# Altium footprint library Buzzsaw Footprint Lib.PcbLib: 24 footprints (part 1 of 2)
Each footprint in its own frame and in the unit in brackets; x right, y up, seen from the top. Pads: shape width x height; smd on the part's side, far side on the other; paste and mask are expansions set on the pad; w line width, h text height; cw(c..) or ccw(c..) is an arc to the next point about the centre after c.
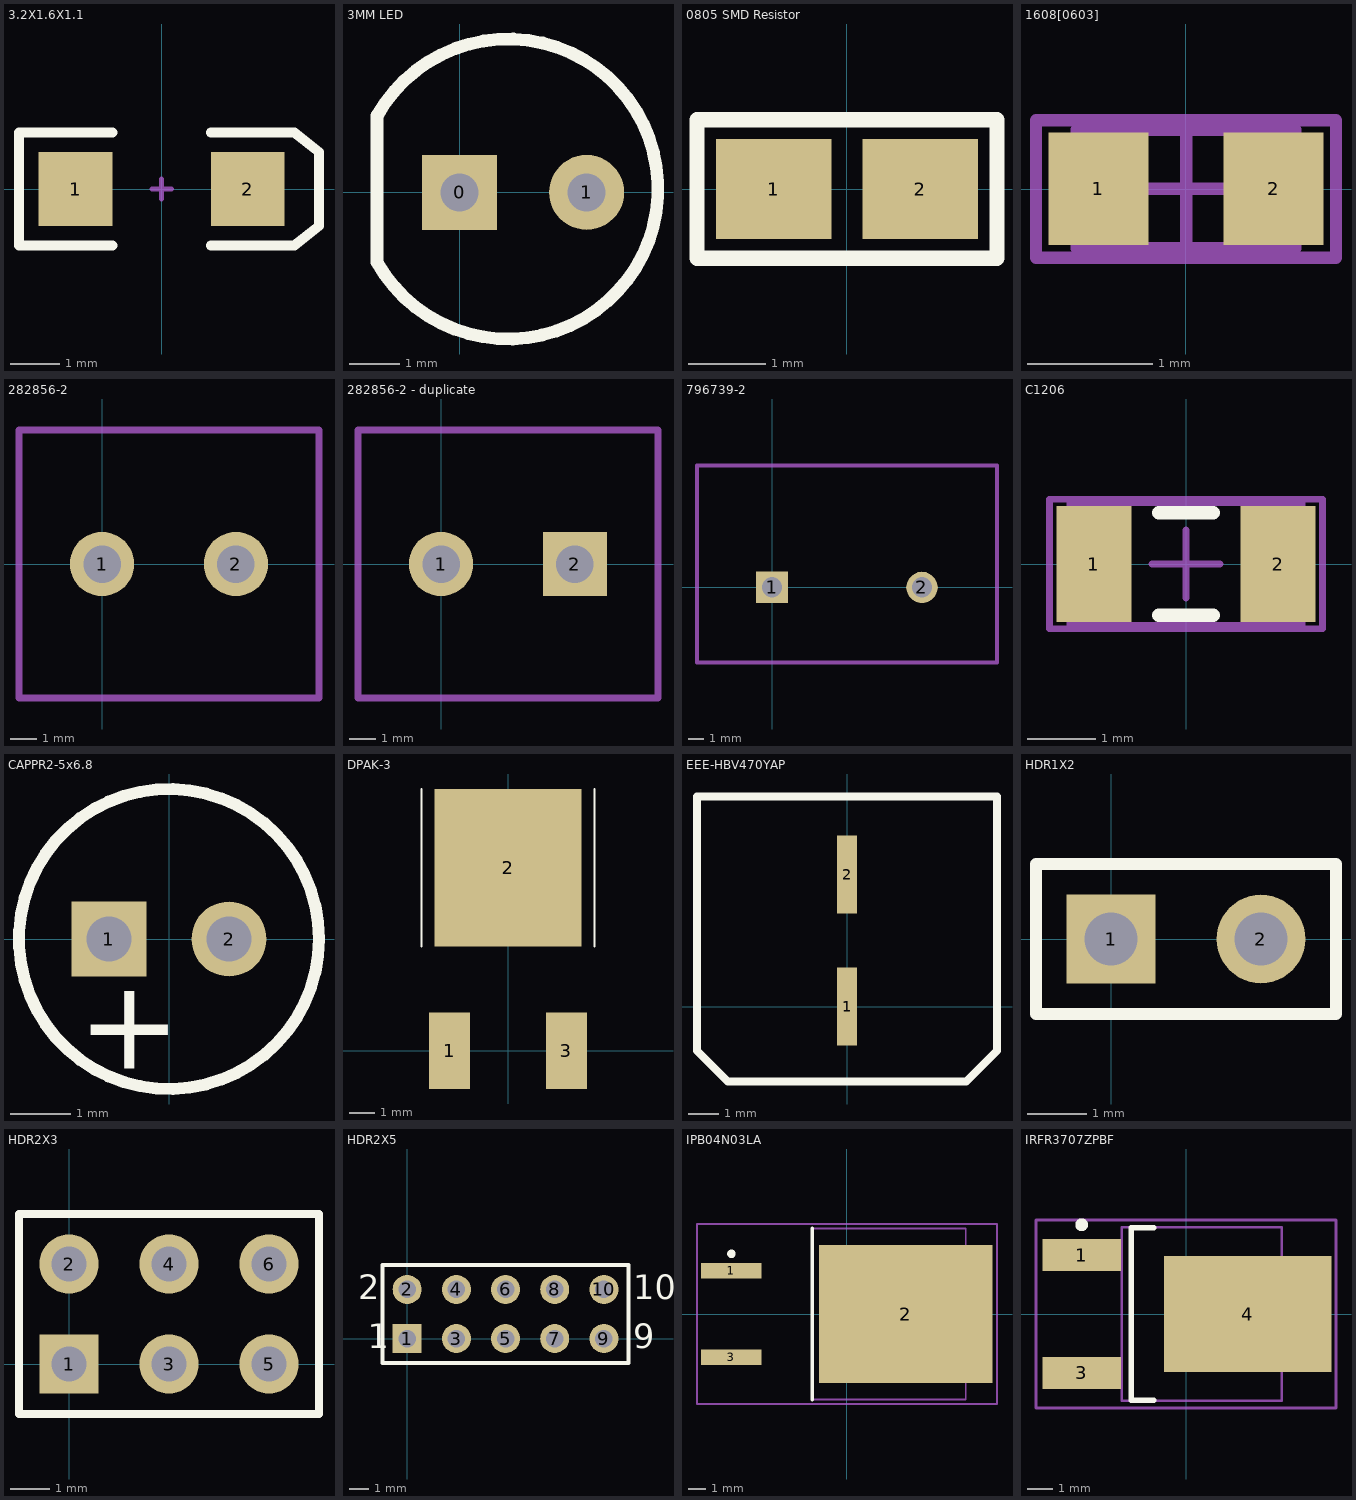
[diagram p0: the footprints below, top view; thin cyan lines are the x and y axes]

## 3.2X1.6X1.1 [mm] "SMT LED; 2 Flat Leads"
height 1.2
pads (2):
  rect 1.5x1.5 smd: 1(-1.75,0) 2(1.75,0)
Top Overlay:
  lines w0.2: -1,-1.15 -2.9,-1.15 -2.9,1.15 -1,1.15 ; 1,-1.15 2.7,-1.15 3.2,-0.75 3.2,0.75 2.7,1.15 1,1.15
Mechanical 1:
  lines w0.1: -0.2,0 0.2,0 ; 0,-0.2 0,0.2

## 3MM LED [mm]
pads (2):
  rect 1.5x1.5 hole 0.762: 0(0,0)
  round 1.5 hole 0.762: 1(2.54,0)
Top Overlay:
  lines w0.254: -1.651,1.537 -1.651,-1.397 ccw(c0.967,0.068) -1.645,1.543

## 0805 SMD Resistor [mm]
height 1
pads (2):
  rect 1.5x1.3 smd: 1(-0.95,0) 2(0.95,0)
Top Overlay:
  lines w0.2: -1.95,-0.9 1.95,-0.9 1.95,0.9 -1.95,0.9 -1.95,0 -1.95,-0.9

## 1608[0603] [mm] "Chip Capacitor, Body 1.6x0.8mm, IPC High Density"
height 1.3
pads (2):
  rect 0.8x0.9 smd: 1(-0.7,0) 2(0.7,0)
Mechanical 13:
  lines w0.1: -0.875,-0.475 0.875,-0.475 0.875,0.475 -0.875,0.475 -0.875,-0.475
Mechanical 15:
  lines w0.1: -0.475,0 0.475,0 ; 0,-0.475 0,0.475 ; -1.2,-0.55 1.2,-0.55 1.2,0.55 -1.2,0.55 -1.2,-0.55
3D body: height 1.3, standoff 0, extent -0.875,-0.475 0.875,0.475

## 282856-2 [mm] "Screw Terminal  two pole"
height 19
pads (2):
  round 2.4 hole 1.4: 1(0,0) 2(5,0)
Mechanical 13:
  lines w0.254: -3.1,-5 -3.1,5 8.1,5 8.1,-5 -3.1,-5

## 282856-2 - duplicate [mm] "Screw Terminal  two pole"
height 19
pads (2):
  round 2.4 hole 1.4: 1(0,0)
  rect 2.4x2.4 hole 1.4: 2(5,0)
Mechanical 13:
  lines w0.254: -3.1,-5 8.1,-5 8.1,5 -3.1,5 -3.1,-5

## 796739-2 [mm] "796739-2 30Amp Screw Terminal block"
pads (2):
  rect 2x2 hole 1.3: 1(0,0)
  round 2 hole 1.3: 2(9.52,0)
Mechanical 1:
  lines w0.254: -4.76,-4.76 -4.76,7.74 14.28,7.74 14.28,-4.76 -4.76,-4.76

## C1206 [mm] "Chip Capacitor, Body 3.2x1.6mm, IPC High Density"
height 1.3
pads (2):
  rect 1.1x1.7 smd: 1(-1.35,0) 2(1.35,0)
Top Overlay:
  lines w0.2: -0.4,-0.75 0.4,-0.75 ; -0.4,0.75 0.4,0.75
Mechanical 13:
  lines w0.1: -1.7,-0.9 1.7,-0.9 1.7,0.9 -1.7,0.9 -1.7,-0.9
Mechanical 15:
  lines w0.1: -0.5,0 0.5,0 ; 0,-0.5 0,0.5 ; -2,-0.95 2,-0.95 2,0.95 -2,0.95 -2,-0.95
3D body: height 1.3, standoff 0, extent -1.7,-0.9 1.7,0.9

## CAPPR2-5x6.8 [mm] "Capacitor, Electrolytic, Radial; Body 5 x 6.8 mm (Dia.xH typ); Pin Spacing 2 mm (typ)"
height 7.8
pads (2):
  rect 1.25x1.25 hole 0.75: 1(-1,0)
  round 1.25 hole 0.75: 2(1,0)
Top Overlay:
  circle w0.2: c0,0 r2.5
  text "+" at -1.524,-2.159 h1.5

## DPAK-3 [mm] "Case 369C-01 for MC78xx regulators"
height 2.38
pads (3):
  rect 1.6x3 smd: 1(-2.3,0) 3(2.3,0)
  rect 5.8x6.2 smd: 2(0,7.2)
Top Overlay:
  lines w0.076: -3.4,4.1 -3.4,10.3 ; 3.4,4.1 3.4,10.3
3D body: height 2.38, standoff 0, extent -3.4,4.1 3.4,10.3

## EEE-HBV470YAP [mm] "Panasonic Aluminum Electrolytic Cap SMD"
height 5.8
pads (2):
  rect 0.65x2.6 smd: 1(0,0) 2(0,4.4)
Top Overlay:
  lines w0.254: -5,-1.477 -5,7 5,7 5,-1.477 3.977,-2.5 3,-2.5 -3,-2.5 -3.977,-2.5 -5,-1.477

## HDR1X2 [mm] "Connector; Header; 2 Position"
height 1
pads (2):
  rect 1.5x1.5 hole 0.9: 1(0,0)
  round 1.5 hole 0.9: 2(2.54,0)
Top Overlay:
  lines w0.2: -1.27,-1.27 -1.27,1.27 3.81,1.27 3.81,-1.27 -1.27,-1.27

## HDR2X3 [mm] "Connector; Header; 3x2 Position"
height 1
pads (6):
  rect 1.5x1.5 hole 0.9: 1(0,0)
  round 1.5 hole 0.9: 2(0,2.54) 3(2.54,0) 4(2.54,2.54) 5(5.08,0) 6(5.08,2.54)
Top Overlay:
  lines w0.2: 1.482,-1.27 6.35,-1.27 ; 6.35,-1.27 -1.27,-1.27 -1.27,3.81 6.35,3.81 6.35,-1.27

## HDR2X5 [mm] "Connector; Header; 5x2 Position"
height 1
pads (10):
  rect 1.5x1.5 hole 0.9: 1(0,0)
  round 1.5 hole 0.9: 2(0,2.54) 3(2.54,0) 4(2.54,2.54) 5(5.08,0) 6(5.08,2.54) 7(7.62,0) 8(7.62,2.54) 9(10.16,0) 10(10.16,2.54)
Top Overlay:
  lines w0.2: -1.27,-1.27 -1.27,3.81 11.43,3.81 11.43,-1.27 -1.27,-1.27
  text "2" at -2.54,2.032 h1.27
  text "1" at -2.032,-0.508 h1.27
  text "9" at 11.684,-0.508 h1.27
  text "10" at 11.684,2.032 h1.27

## IPB04N03LA [mm] "Power-Transistor"
height 2.56
pads (3):
  rect 3.55x0.9 smd: 1(-6.8,2.54) 3(-6.8,-2.54)
  rect 10.2x8.1 smd: 2(3.45,0)
Top Overlay:
  circle w0.25: c-6.8,3.54 r0.125
  lines w0.2: -2.05,-5.05 -2.05,5.05
Mechanical 13:
  lines w0.1: -2,-5.025 6.98,-5.025 6.98,5.025 -2,5.025 -2,-5.025
Mechanical 15:
  lines w0.1: -0.5,0 0.5,0 ; 0,-0.5 0,0.5 ; -8.825,-5.3 8.825,-5.3 8.825,5.3 -8.825,5.3 -8.825,-5.3
3D body: height 2.56, standoff 0.47, extent -2,-5.025 6.98,5.025

## IRFR3707ZPBF [mm] "Power FET"
height 2.39
pads (3):
  rect 3.05x1.25 smd: 1(-4.05,2.29) 3(-4.05,-2.29)
  rect 6.5x4.5 smd: 4(2.4,0)
Top Overlay:
  circle w0.25: c-4.05,3.465 r0.125
  lines w0.2: -1.25,-3.35 -2.125,-3.35 -2.125,3.35 -1.25,3.35
Mechanical 13:
  lines w0.1: -2.5,-3.375 3.72,-3.375 3.72,3.375 -2.5,3.375 -2.5,-3.375
Mechanical 15:
  lines w0.1: -0.5,0 0.5,0 ; 0,-0.5 0,0.5 ; -5.825,-3.65 5.825,-3.65 5.825,3.65 -5.825,3.65 -5.825,-3.65
3D body: height 2.39, standoff 0.05, extent -2.5,-3.375 3.72,3.375